# EAGLE library part NRF52832 (library nrf52832-breakout-temp)
Nordic nRF52832 Bluetooth Smart/ANT/2.4GHz RF SoC The nRF52832 SoC is a powerful, highly flexible ultra-low power multiprotocol SoC ideally suited for Bluetooth® Smart ANT and 2.4GHz ultra low-power wireless applications. The nRF52832 SoC is built around a 32-bit ARM® Cortex™-M4F CPU with 512kB + 64kB RAM. The embedded 2.4GHz transceiver supports Bluetooth Smart, ANT and proprietary 2.4 GHz protocol stack. It is on air compatible with the nRF51 Series, nRF24L and nRF24AP Series products from Nordic Semiconductor. Product Page <https://www.nordicsemi.com/eng/Products/Bluetooth-low-energy2/nRF52832>
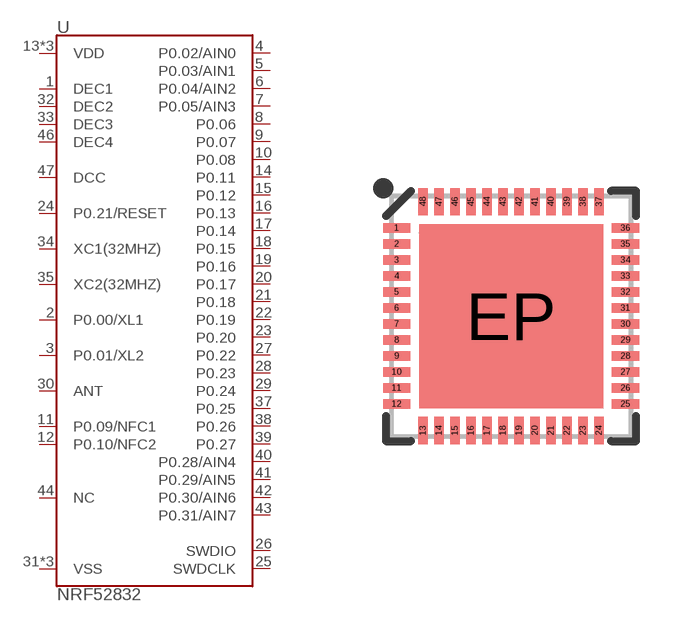
[diagram p0: symbol with the pads of QFN48-6X6MM; footprint QFN48-6X6MM]

Designator prefix U

## NRF52832 (PROD_ID: IC-13460)  [QFN48-6X6MM]
1  DEC1
2  P0.00/XL1
3  P0.01/XL2
4  P0.02/AIN0
5  P0.03/AIN1
6  P0.04/AIN2
7  P0.05/AIN3
8  P0.06
9  P0.07
10  P0.08
11  P0.09/NFC1
12  P0.10/NFC2
13  VDD
14  P0.11
15  P0.12
16  P0.13
17  P0.14
18  P0.15
19  P0.16
20  P0.17
21  P0.18
22  P0.19
23  P0.20
24  P0.21/RESET
25  SWDCLK
26  SWDIO
27  P0.22
28  P0.23
29  P0.24
30  ANT
31  VSS
32  DEC2
33  DEC3
34  XC1(32MHZ)
35  XC2(32MHZ)
36  VDD
37  P0.25
38  P0.26
39  P0.27
40  P0.28/AIN4
41  P0.29/AIN5
42  P0.30/AIN6
43  P0.31/AIN7
44  NC
45  VSS
46  DEC4
47  DCC
48  VDD
EP  VSS

## Footprint QFN48-6X6MM (pad centres in mm)
smd 0.68 x 0.23: 1 -2.86,2.2; 2 -2.86,1.8; 3 -2.86,1.4; 4 -2.86,1; 5 -2.86,0.6; 6 -2.86,0.2; 7 -2.86,-0.2; 8 -2.86,-0.6; 9 -2.86,-1; 10 -2.86,-1.4; 11 -2.86,-1.8; 12 -2.86,-2.2; 25 2.86,-2.2; 26 2.86,-1.8; 27 2.86,-1.4; 28 2.86,-1; 29 2.86,-0.6; 30 2.86,-0.2; 31 2.86,0.2; 32 2.86,0.6; 33 2.86,1; 34 2.86,1.4; 35 2.86,1.8; 36 2.86,2.2
smd 0.23 x 0.68: 13 -2.2,-2.86; 14 -1.8,-2.86; 15 -1.4,-2.86; 16 -1,-2.86; 17 -0.6,-2.86; 18 -0.2,-2.86; 19 0.2,-2.86; 20 0.6,-2.86; 21 1,-2.86; 22 1.4,-2.86; 23 1.8,-2.86; 24 2.2,-2.86; 37 2.2,2.86; 38 1.8,2.86; 39 1.4,2.86; 40 1,2.86; 41 0.6,2.86; 42 0.2,2.86; 43 -0.2,2.86; 44 -0.6,2.86; 45 -1,2.86; 46 -1.4,2.86; 47 -1.8,2.86; 48 -2.2,2.86
smd 4.6 x 4.6: EP 0,0